# Altium footprint library ISO1050.PcbLib: 1 footprints
Each footprint in its own frame and in the unit in brackets; x right, y up, seen from the top. Pads: shape width x height; smd on the part's side, far side on the other; paste and mask are expansions set on the pad; w line width, h text height; cw(c..) or ccw(c..) is an arc to the next point about the centre after c.
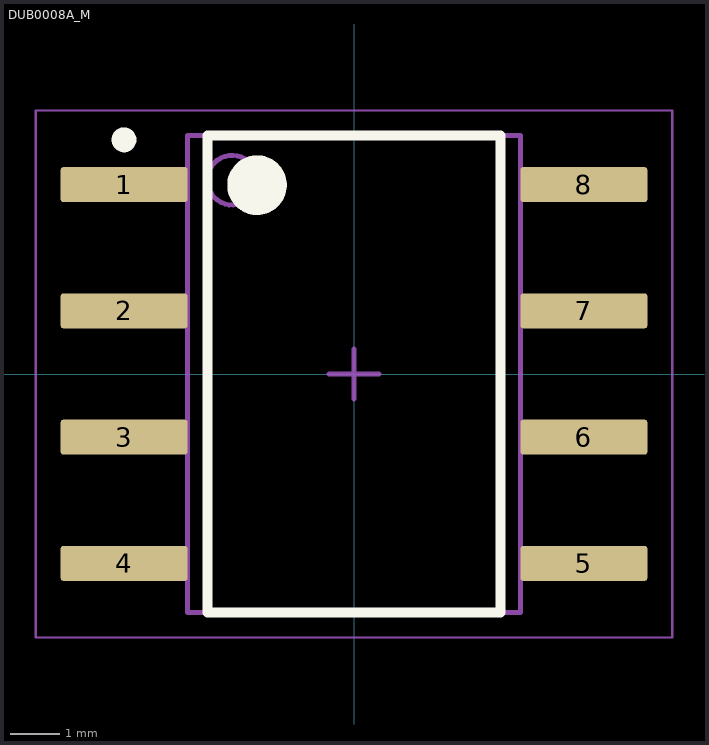
[diagram p0: the footprint, top view; thin cyan lines are the x and y axes]

## DUB0008A_M [mm] "SOP, 8-Leads, Body 6.7x9.6mm, Pitch 2.54mm, IPC Low Density"
height 4.85
pads (8):
  rrect14% 2.55x0.7 smd: 1(-4.625,3.81) 2(-4.625,1.27) 3(-4.625,-1.27) 4(-4.625,-3.81) 5(4.625,-3.81) 6(4.625,-1.27) 7(4.625,1.27) 8(4.625,3.81)
Top Overlay:
  circle w0.6: c-1.95,3.8 r0.3
  circle w0.25: c-4.625,4.71 r0.125
  lines w0.2: -2.95,-4.8 2.95,-4.8 2.95,4.8 -2.95,4.8 -2.95,-4.8
Mechanical 1:
  text ".Designator" at -2.286,-0.254 h1
Mechanical 13:
  circle w0.1: c-2.45,3.9 r0.5
  lines w0.1: -3.35,-4.8 3.35,-4.8 3.35,4.8 -3.35,4.8 -3.35,-4.8
Mechanical 15:
  lines w0.05: -6.4,-5.3 6.4,-5.3 6.4,5.3 -6.4,5.3 -6.4,-5.3
  lines w0.1: -0.5,0 0.5,0 ; 0,-0.5 0,0.5
3D body "DUB0008A.stp": height 4.85, standoff 0, extent -5.242,-4.75 5.242,4.75